# Altium footprint library C_THT.PcbLib: 71 footprints (part 3 of 5)
Each footprint in its own frame and in the unit in brackets; x right, y up, seen from the top. Pads: shape width x height; smd on the part's side, far side on the other; paste and mask are expansions set on the pad; w line width, h text height; cw(c..) or ccw(c..) is an arc to the next point about the centre after c.
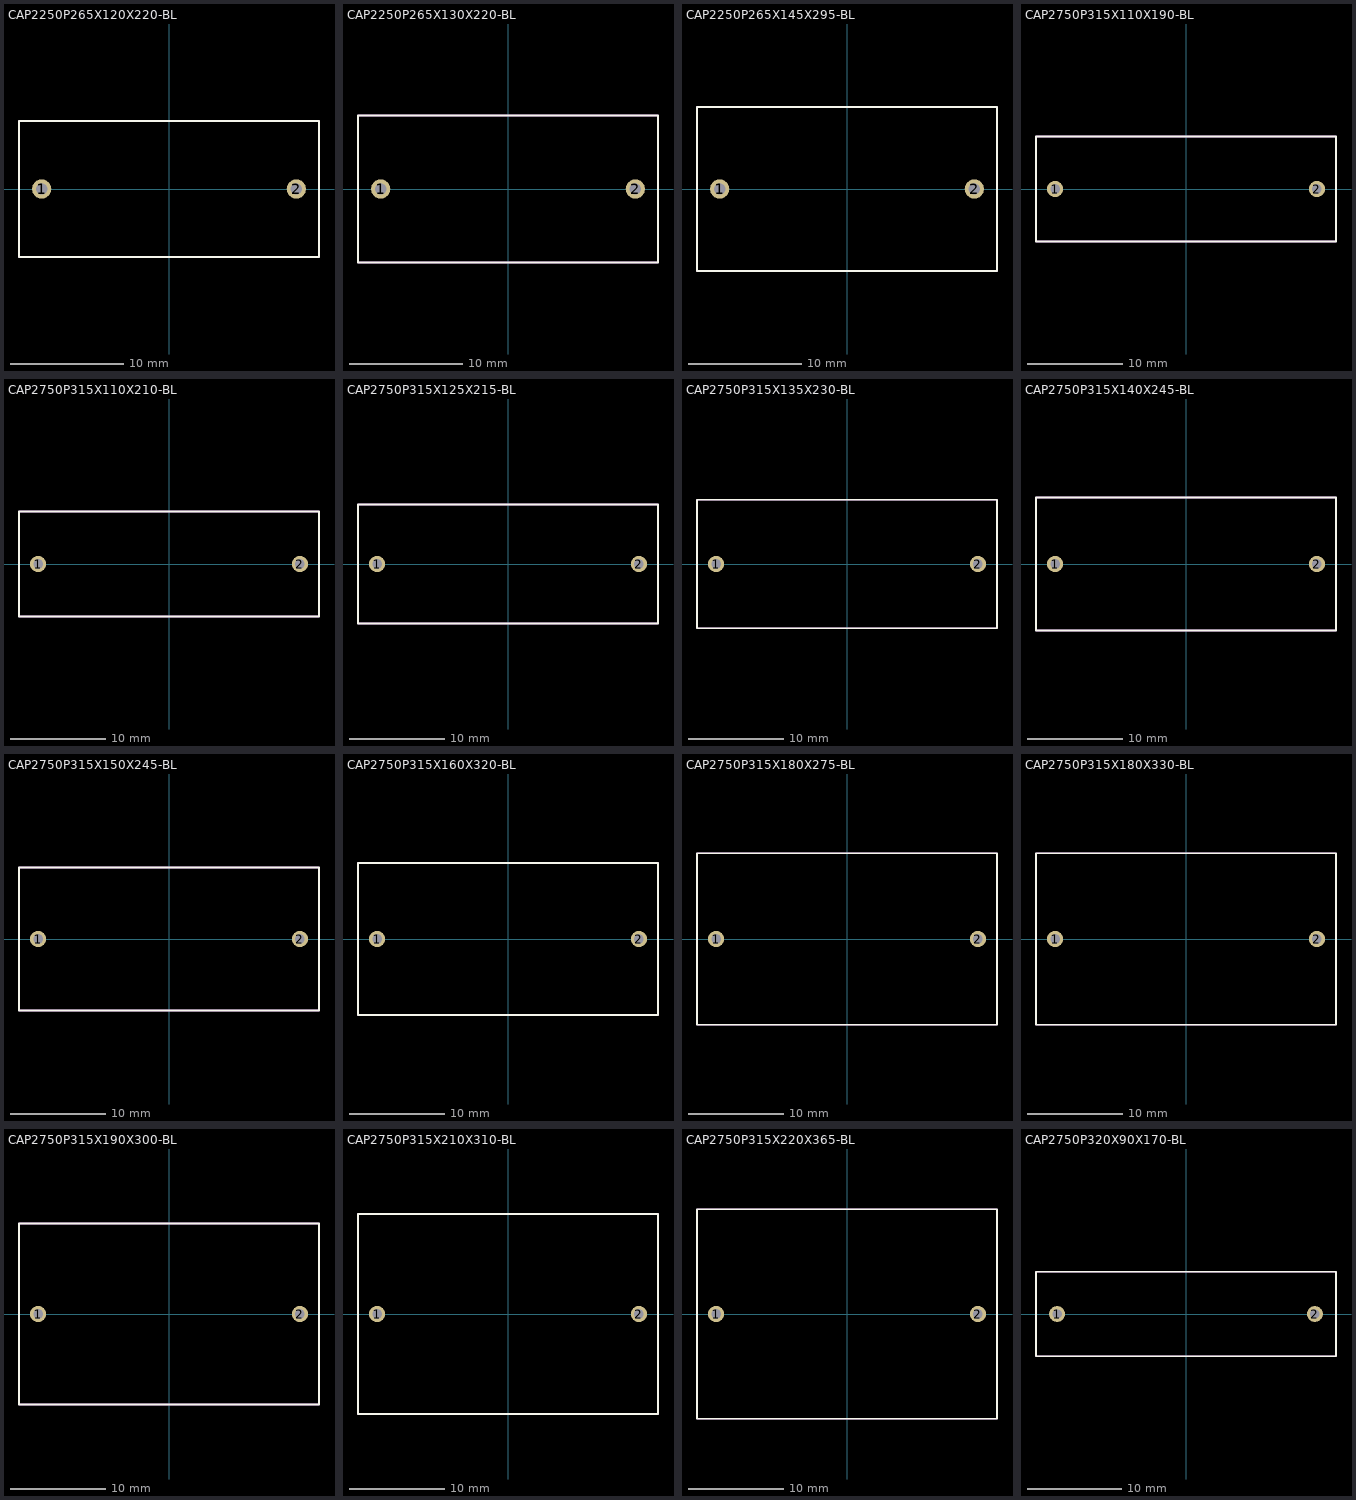
[diagram p2: the footprints below, top view; thin cyan lines are the x and y axes]

## CAP2250P265X120X220-BL [mm]
pads (2):
  round 1.7 hole 1: 1(-11.25,0) 2(11.25,0)
Top Overlay:
  lines w0.2: -13.25,-6 -13.25,6 13.25,6 13.25,-6 -13.25,-6
Top Assembly:
  lines w0.2: -13.25,-6 -13.25,6 13.25,6 13.25,-6 -13.25,-6
3D body: height 0, standoff -4, extent -11.65,-0.4 -10.85,0.4
3D body: height 0, standoff -4, extent 10.85,-0.4 11.65,0.4
3D body: height 22, standoff 0, extent -13.25,-6 13.25,6

## CAP2250P265X130X220-BL [mm]
pads (2):
  round 1.7 hole 1: 1(-11.25,0) 2(11.25,0)
Top Overlay:
  lines w0.2: -13.25,-6.5 -13.25,6.5 13.25,6.5 13.25,-6.5 -13.25,-6.5
Top Assembly:
  lines w0.2: -13.25,-6.5 -13.25,6.5 13.25,6.5 13.25,-6.5 -13.25,-6.5
3D body: height 0, standoff -4, extent -11.65,-0.4 -10.85,0.4
3D body: height 0, standoff -4, extent 10.85,-0.4 11.65,0.4
3D body: height 22, standoff 0, extent -13.25,-6.5 13.25,6.5

## CAP2250P265X145X295-BL [mm]
pads (2):
  round 1.7 hole 1: 1(-11.25,0) 2(11.25,0)
Top Overlay:
  lines w0.2: -13.25,-7.25 13.25,-7.25 13.25,7.25 -13.25,7.25 -13.25,-7.25
Top Assembly:
  lines w0.2: -13.25,-7.25 13.25,-7.25 13.25,7.25 -13.25,7.25 -13.25,-7.25
3D body: height 29.5, standoff 0, extent -13.25,-7.25 13.25,7.25
3D body: height 0, standoff -4, extent 10.85,-0.4 11.65,0.4
3D body: height 0, standoff -4, extent -11.65,-0.4 -10.85,0.4

## CAP2750P315X110X190-BL [mm]
pads (2):
  round 1.7 hole 1: 1(-13.75,0) 2(13.75,0)
Top Overlay:
  lines w0.2: -15.75,-5.5 -15.75,5.5 15.75,5.5 15.75,-5.5 -15.75,-5.5
Top Assembly:
  lines w0.2: -15.75,-5.5 -15.75,5.5 15.75,5.5 15.75,-5.5 -15.75,-5.5
3D body: height 0, standoff -4, extent -14.15,-0.4 -13.35,0.4
3D body: height 0, standoff -4, extent 13.35,-0.4 14.15,0.4
3D body: height 19, standoff 0, extent -15.75,-5.5 15.75,5.5

## CAP2750P315X110X210-BL [mm]
pads (2):
  round 1.7 hole 1: 1(-13.75,0) 2(13.75,0)
Top Overlay:
  lines w0.2: -15.75,-5.5 -15.75,5.5 15.75,5.5 15.75,-5.5 -15.75,-5.5
Top Assembly:
  lines w0.2: -15.75,-5.5 -15.75,5.5 15.75,5.5 15.75,-5.5 -15.75,-5.5
3D body: height 0, standoff -4, extent -14.15,-0.4 -13.35,0.4
3D body: height 0, standoff -4, extent 13.35,-0.4 14.15,0.4
3D body: height 21, standoff 0, extent -15.75,-5.5 15.75,5.5

## CAP2750P315X125X215-BL [mm]
pads (2):
  round 1.7 hole 1: 1(-13.75,0) 2(13.75,0)
Top Overlay:
  lines w0.2: -15.75,-6.25 -15.75,6.25 15.75,6.25 15.75,-6.25 -15.75,-6.25
Top Assembly:
  lines w0.2: -15.75,-6.25 -15.75,6.25 15.75,6.25 15.75,-6.25 -15.75,-6.25
3D body: height 0, standoff -4, extent -14.15,-0.4 -13.35,0.4
3D body: height 0, standoff -4, extent 13.35,-0.4 14.15,0.4
3D body: height 21.5, standoff 0, extent -15.75,-6.25 15.75,6.25

## CAP2750P315X135X230-BL [mm]
pads (2):
  round 1.7 hole 1: 1(-13.75,0) 2(13.75,0)
Top Overlay:
  lines w0.2: -15.75,-6.75 15.75,-6.75 15.75,6.75 -15.75,6.75 -15.75,-6.75
Top Assembly:
  lines w0.2: -15.75,-6.75 15.75,-6.75 15.75,6.75 -15.75,6.75 -15.75,-6.75
3D body: height 23, standoff 0, extent -15.75,-6.75 15.75,6.75
3D body: height 0, standoff -4, extent 13.35,-0.4 14.15,0.4
3D body: height 0, standoff -4, extent -14.15,-0.4 -13.35,0.4

## CAP2750P315X140X245-BL [mm]
pads (2):
  round 1.7 hole 1: 1(-13.75,0) 2(13.75,0)
Top Overlay:
  lines w0.2: -15.75,-7 -15.75,7 15.75,7 15.75,-7 -15.75,-7
Top Assembly:
  lines w0.2: -15.75,-7 -15.75,7 15.75,7 15.75,-7 -15.75,-7
3D body: height 0, standoff -4, extent -14.15,-0.4 -13.35,0.4
3D body: height 0, standoff -4, extent 13.35,-0.4 14.15,0.4
3D body: height 24.5, standoff 0, extent -15.75,-7 15.75,7

## CAP2750P315X150X245-BL [mm]
pads (2):
  round 1.7 hole 1: 1(-13.75,0) 2(13.75,0)
Top Overlay:
  lines w0.2: -15.75,-7.5 -15.75,7.5 15.75,7.5 15.75,-7.5 -15.75,-7.5
Top Assembly:
  lines w0.2: -15.75,-7.5 -15.75,7.5 15.75,7.5 15.75,-7.5 -15.75,-7.5
3D body: height 0, standoff -4, extent -14.15,-0.4 -13.35,0.4
3D body: height 0, standoff -4, extent 13.35,-0.4 14.15,0.4
3D body: height 24.5, standoff 0, extent -15.75,-7.5 15.75,7.5

## CAP2750P315X160X320-BL [mm]
pads (2):
  round 1.7 hole 1: 1(-13.75,0) 2(13.75,0)
Top Overlay:
  lines w0.2: -15.75,-8 -15.75,8 15.75,8 15.75,-8 -15.75,-8
Top Assembly:
  lines w0.2: -15.75,-8 -15.75,8 15.75,8 15.75,-8 -15.75,-8
3D body: height 0, standoff -4, extent -14.15,-0.4 -13.35,0.4
3D body: height 0, standoff -4, extent 13.35,-0.4 14.15,0.4
3D body: height 32, standoff 0, extent -15.75,-8 15.75,8

## CAP2750P315X180X275-BL [mm]
pads (2):
  round 1.7 hole 1: 1(-13.75,0) 2(13.75,0)
Top Overlay:
  lines w0.2: -15.75,-9 -15.75,9 15.75,9 15.75,-9 -15.75,-9
Top Assembly:
  lines w0.2: -15.75,-9 -15.75,9 15.75,9 15.75,-9 -15.75,-9
3D body: height 0, standoff -4, extent -14.15,-0.4 -13.35,0.4
3D body: height 0, standoff -4, extent 13.35,-0.4 14.15,0.4
3D body: height 27.5, standoff 0, extent -15.75,-9 15.75,9

## CAP2750P315X180X330-BL [mm]
pads (2):
  round 1.7 hole 1: 1(-13.75,0) 2(13.75,0)
Top Overlay:
  lines w0.2: -15.75,-9 -15.75,9 15.75,9 15.75,-9 -15.75,-9
Top Assembly:
  lines w0.2: -15.75,-9 -15.75,9 15.75,9 15.75,-9 -15.75,-9
3D body: height 0, standoff -4, extent -14.15,-0.4 -13.35,0.4
3D body: height 0, standoff -4, extent 13.35,-0.4 14.15,0.4
3D body: height 33, standoff 0, extent -15.75,-9 15.75,9

## CAP2750P315X190X300-BL [mm]
pads (2):
  round 1.7 hole 1: 1(-13.75,0) 2(13.75,0)
Top Overlay:
  lines w0.2: -15.75,-9.5 -15.75,9.5 15.75,9.5 15.75,-9.5 -15.75,-9.5
Top Assembly:
  lines w0.2: -15.75,-9.5 -15.75,9.5 15.75,9.5 15.75,-9.5 -15.75,-9.5
3D body: height 0, standoff -4, extent -14.15,-0.4 -13.35,0.4
3D body: height 0, standoff -4, extent 13.35,-0.4 14.15,0.4
3D body: height 30, standoff 0, extent -15.75,-9.5 15.75,9.5

## CAP2750P315X210X310-BL [mm]
pads (2):
  round 1.7 hole 1: 1(-13.75,0) 2(13.75,0)
Top Overlay:
  lines w0.2: -15.75,-10.5 -15.75,10.5 15.75,10.5 15.75,-10.5 -15.75,-10.5
Top Assembly:
  lines w0.2: -15.75,-10.5 -15.75,10.5 15.75,10.5 15.75,-10.5 -15.75,-10.5
3D body: height 0, standoff -4, extent -14.15,-0.4 -13.35,0.4
3D body: height 0, standoff -4, extent 13.35,-0.4 14.15,0.4
3D body: height 31, standoff 0, extent -15.75,-10.5 15.75,10.5

## CAP2750P315X220X365-BL [mm]
pads (2):
  round 1.7 hole 1: 1(-13.75,0) 2(13.75,0)
Top Overlay:
  lines w0.2: -15.75,-11 15.75,-11 15.75,11 -15.75,11 -15.75,-11
Top Assembly:
  lines w0.2: -15.75,-11 15.75,-11 15.75,11 -15.75,11 -15.75,-11
3D body: height 36.5, standoff 0, extent -15.75,-11 15.75,11
3D body: height 0, standoff -4, extent 13.35,-0.4 14.15,0.4
3D body: height 0, standoff -4, extent -14.15,-0.4 -13.35,0.4

## CAP2750P320X90X170-BL [mm]
pads (2):
  round 1.7 hole 1: 1(-13.75,0) 2(13.75,0)
Top Overlay:
  lines w0.2: -16,-4.5 -16,4.5 16,4.5 16,-4.5 -16,-4.5
Top Assembly:
  lines w0.2: -16,-4.5 -16,4.5 16,4.5 16,-4.5 -16,-4.5
3D body: height 0, standoff -4, extent -14.15,-0.4 -13.35,0.4
3D body: height 0, standoff -4, extent 13.35,-0.4 14.15,0.4
3D body: height 17, standoff 0, extent -16,-4.5 16,4.5